# Altium footprint library Anlogic Eagle FPGA E104 V2.0 20221204.PcbLib: 17 footprints (part 2 of 2)
Each footprint in its own frame and in the unit in brackets; x right, y up, seen from the top. Pads: shape width x height; smd on the part's side, far side on the other; paste and mask are expansions set on the pad; w line width, h text height; cw(c..) or ccw(c..) is an arc to the next point about the centre after c.
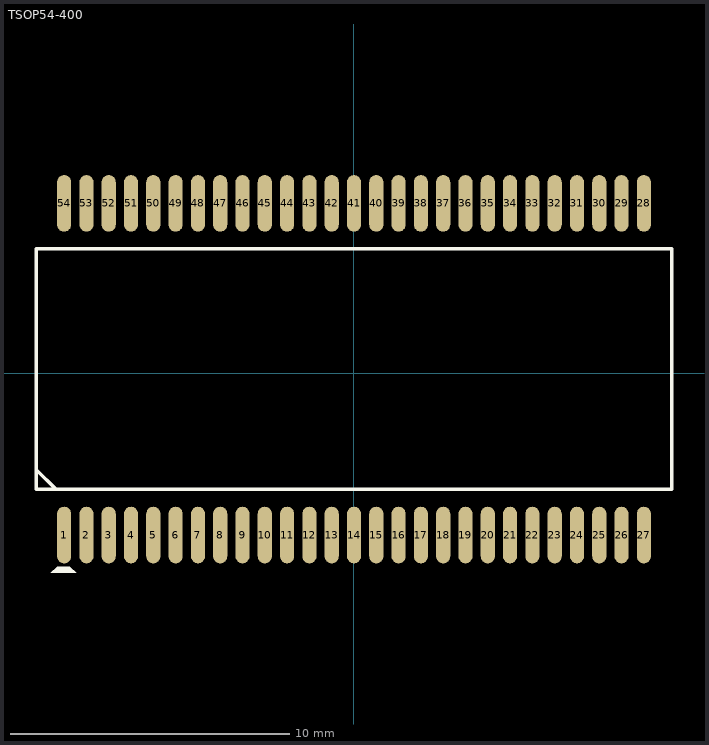
[diagram p1: the footprint, top view; thin cyan lines are the x and y axes]

## TSOP54-400 [mil] "TSOP54-400"
pads (54):
  oval 20x80 smd: 1(-409.44,-228.74) 2(-377.94,-228.74) 3(-346.45,-228.74) 4(-314.95,-228.74) 5(-283.46,-228.74) 6(-251.96,-228.74) 7(-220.46,-228.74) 8(-188.97,-228.74) 9(-157.47,-228.74) 10(-125.98,-228.74) 11(-94.48,-228.74) 12(-62.98,-228.74) 13(-31.49,-228.74) 14(0.01,-228.74) 15(31.5,-228.74) 16(63,-228.74) 17(94.5,-228.74) 18(125.99,-228.74) 19(157.49,-228.74) 20(188.99,-228.74) 21(220.48,-228.74) 22(251.98,-228.74) 23(283.47,-228.74) 24(314.97,-228.74) 25(346.47,-228.74) 26(377.96,-228.74) 27(409.46,-228.74) 28(409.46,239.76) 29(377.96,239.76) 30(346.47,239.76) 31(314.97,239.76) 32(283.47,239.76) 33(251.98,239.76) 34(220.48,239.76) 35(188.99,239.76) 36(157.49,239.76) 37(125.99,239.76) 38(94.5,239.76) 39(63,239.76) 40(31.5,239.76) 41(0.01,239.76) 42(-31.49,239.76) 43(-62.98,239.76) 44(-94.48,239.76) 45(-125.98,239.76) 46(-157.47,239.76) 47(-188.97,239.76) 48(-220.46,239.76) 49(-251.96,239.76) 50(-283.46,239.76) 51(-314.95,239.76) 52(-346.45,239.76) 53(-377.94,239.76) 54(-409.44,239.76)
Top Overlay:
  region: -419.28,-273.23 -401.57,-273.23 -392.51,-282.28 -428.34,-282.28
  lines w4.92: -448.02,-137.01 -421.64,-163.39 ; -448.81,-163.78 448.83,-163.78 448.83,175.98 -448.81,175.98 -448.81,-163.78